# Altium schematic symbol library hp_connectors.SchLib: 1 symbol
Pins are listed as number, name and electrical type; pins without a type are passive.

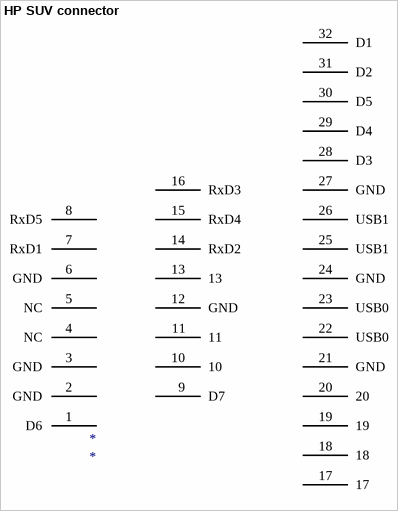
[diagram p0: symbol HP SUV connector]

## HP SUV connector
designator *
pins: 1 D6, 2 GND, 3 GND, 4 NC, 5 NC, 6 GND, 7 RxD1, 8 RxD5, 9 D7, 10, 11, 12 GND, 13, 14 RxD2, 15 RxD4, 16 RxD3, 17, 18, 19, 20, 21 GND, 22 USB0, 23 USB0, 24 GND, 25 USB1, 26 USB1, 27 GND, 28 D3, 29 D4, 30 D5, 31 D2, 32 D1